# Altium integrated library Coiltronics Passive Transformer.IntLib: 204 symbols (part 2 of 4)
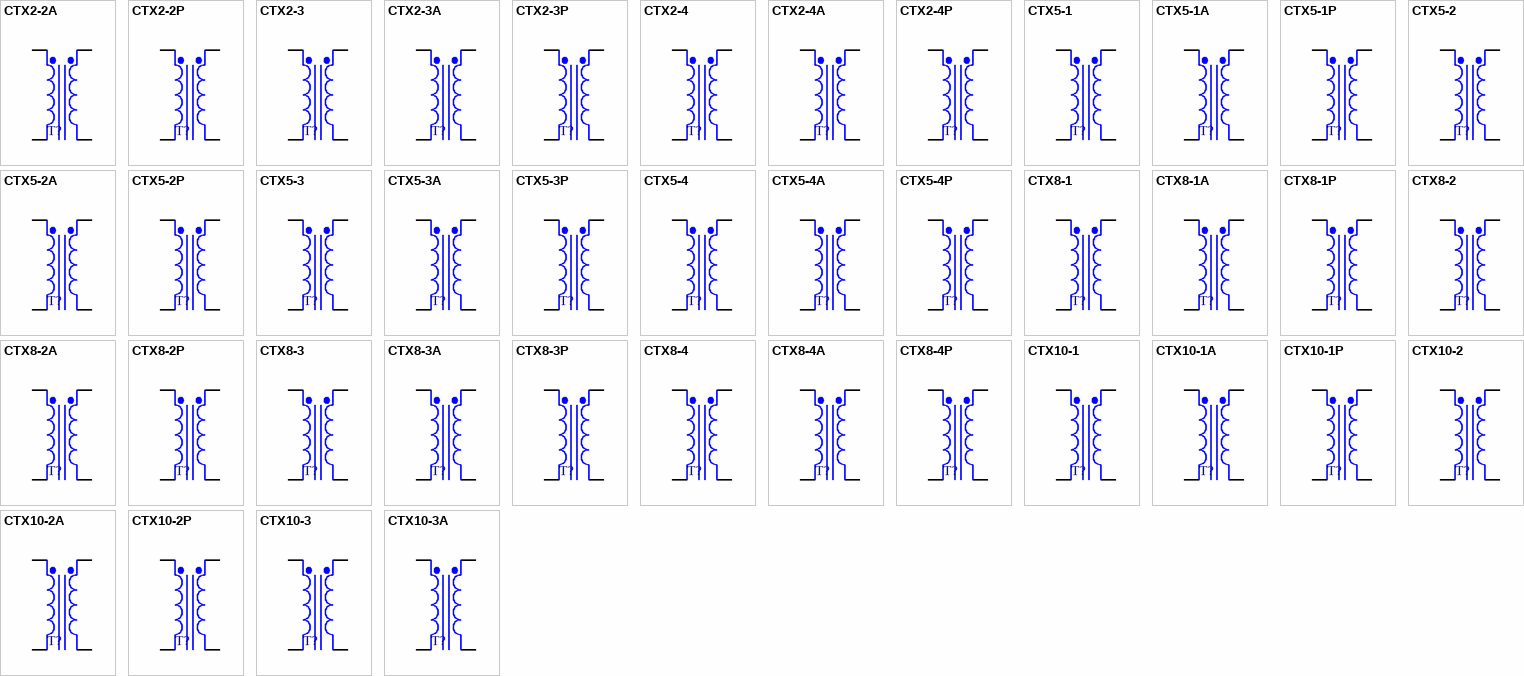
[diagram p6: symbols CTX2-2A to CTX10-3A]

## CTX5-4P
designator T?
Surface Mount 1:1 Transformer, 1.65A DC Series Full Load Current, Econo-Pac; Parallel_OCL: 5.15uH ± 20%; Parallel_L(Full_Load): 3.56uH (Minimum); Parallel_I(Full_Load): 3.30A DC; Parallel_DCR: 0.027 Ohms (Maximum); Series_OCL: 20.62uH ± 20%; Series_L(Full_Load): 14.23uH (Minimum); Series_DCR: 0.107 Ohms (Maximum); Published: 17-Jul-2002; DatasheetDocument: Jan-2002; PackageDocument: Dec-2001; PackageReference: OPA4; Publisher: Altium Limited; Series_I(Full_Load): 1.65A DC; ComponentLink1Description: Manufacturer Link; ComponentLink1URL: http://www.cooperet.com/; ComponentLink2Description: Datasheet; ComponentLink2URL: http://www.cooperet.com/pdfs_html/EconoPacOctaPacOctaPacPlus_Specs.pdf
footprint OPA4 (SM Inductor/Transformer; 4 Leads; Body 11.43 x 11.43 x 6.35 mm (LxWxH))
pins: 1 Pri+, 2 Pri-, 3 Sec-, 4 Sec+

## CTX8-1
designator T?
Surface Mount 1:1 Transformer, 1.00A DC Series Full Load Current, Octa-Pac; Parallel_OCL: 8.10uH ± 20%; Parallel_L(Full_Load): 4.08uH (Minimum); Parallel_I(Full_Load): 2.00A DC; Parallel_DCR: 0.039 Ohms (Maximum); Series_OCL: 32.40uH ± 20%; Series_L(Full_Load): 16.34uH (Minimum); Series_I(Full_Load): 1A DC; Series_DCR: 0.157 Ohms (Maximum); Published: 17-Jul-2002; DatasheetDocument: Jan-2002; PackageDocument: Dec-2001; PackageReference: OPA1; Publisher: Altium Limited; ComponentLink1Description: Manufacturer Link; ComponentLink1URL: http://www.cooperet.com/; ComponentLink2Description: Datasheet; ComponentLink2URL: http://www.cooperet.com/pdfs_html/EconoPacOctaPacOctaPacPlus_Specs.pdf
footprint OPA1 (SM Inductor/Transformer; 4 Leads; Body 8.89 x 8.89 x 4.19 mm (LxWxH))
pins: 1 Pri+, 2 Pri-, 3 Sec-, 4 Sec+

## CTX8-1A
designator T?
Surface Mount 1:1 Transformer, 1.69A RMS Series Current, Octa-Pac Plus; Parallel_OCL: 7.94uH ± 25%; Parallel_I(Sat): 2.88A (Peak); Parallel_I(RMS): 3.37A DC; Parallel_DCR: 0.033 Ohms (Typical @ 20°C); Series_OCL: 31.77uH ± 25%; Series_I(Sat): 1.44uH (Minimum); Series_I(RMS): 1.69A DC; Series_DCR: 0.130 Ohms (Typical @ 20°C); Published: 17-Jul-2002; DatasheetDocument: Dec-2001; PackageDocument: Dec-2001; PackageReference: OPA1; Publisher: Altium Limited; ComponentLink1Description: Manufacturer Link; ComponentLink1URL: http://www.cooperet.com/; ComponentLink2Description: Datasheet; ComponentLink2URL: http://www.cooperet.com/pdfs_html/EconoPacOctaPacOctaPacPlus_Specs.pdf
footprint OPA1 (SM Inductor/Transformer; 4 Leads; Body 8.89 x 8.89 x 4.19 mm (LxWxH))
pins: 1 Pri+, 2 Pri-, 3 Sec-, 4 Sec+

## CTX8-1P
designator T?
Surface Mount 1:1 Transformer, 0.90A DC Series Full Load Current, Econo-Pac; Parallel_OCL: 8.08uH ± 20%; Parallel_L(Full_Load): 5.31uH (Minimum); Parallel_I(Full_Load): 1.80A DC; Parallel_DCR: 0.052 Ohms (Maximum); Series_OCL: 32.33uH ± 20%; Series_L(Full_Load): 21.23uH (Minimum); Series_I(Full_Load): 0.9A DC; Series_DCR: 0.207 Ohms (Maximum); Published: 17-Jul-2002; DatasheetDocument: Jan-2002; PackageDocument: Dec-2001; PackageReference: OPA1; Publisher: Altium Limited; ComponentLink1Description: Manufacturer Link; ComponentLink1URL: http://www.cooperet.com/; ComponentLink2Description: Datasheet; ComponentLink2URL: http://www.cooperet.com/pdfs_html/EconoPacOctaPacOctaPacPlus_Specs.pdf
footprint OPA1 (SM Inductor/Transformer; 4 Leads; Body 8.89 x 8.89 x 4.19 mm (LxWxH))
pins: 1 Pri+, 2 Pri-, 3 Sec-, 4 Sec+

## CTX8-2
designator T?
Surface Mount 1:1 Transformer, 1.30A DC Series Full Load Current, Octa-Pac; Parallel_OCL: 7.94uH ± 20%; Parallel_L(Full_Load): 4.18uH (Minimum); Parallel_I(Full_Load): 2.60A DC; Parallel_DCR: 0.027 Ohms (Maximum); Series_OCL: 31.77uH ± 20%; Series_L(Full_Load): 16.72uH (Minimum); Series_I(Full_Load): 1.3A DC; Series_DCR: 0.108 Ohms (Maximum); Published: 17-Jul-2002; DatasheetDocument: Jan-2002; PackageDocument: Dec-2001; PackageReference: OPA2; Publisher: Altium Limited; ComponentLink1Description: Manufacturer Link; ComponentLink1URL: http://www.cooperet.com/; ComponentLink2Description: Datasheet; ComponentLink2URL: http://www.cooperet.com/pdfs_html/EconoPacOctaPacOctaPacPlus_Specs.pdf
footprint OPA2 (SM Inductor/Transformer; 4 Leads; Body 8.89 x 8.89 x 5.97 mm (LxWxH))
pins: 1 Pri+, 2 Pri-, 3 Sec-, 4 Sec+

## CTX8-2A
designator T?
Surface Mount 1:1 Transformer, 1.75A RMS Series Current, Octa-Pac Plus; Parallel_OCL: 7.90uH ± 25%; Parallel_I(Sat): 3.75A (Peak); Parallel_I(RMS): 3.50A DC; Parallel_DCR: 0.032 Ohms (Typical @ 20°C); Series_OCL: 31.60uH ± 25%; Series_I(Sat): 1.88uH (Minimum); Series_I(RMS): 1.75A DC; Series_DCR: 0.129 Ohms (Typical @ 20°C); Published: 17-Jul-2002; DatasheetDocument: Dec-2001; PackageDocument: Dec-2001; PackageReference: OPA2; Publisher: Altium Limited; ComponentLink1Description: Manufacturer Link; ComponentLink1URL: http://www.cooperet.com/; ComponentLink2Description: Datasheet; ComponentLink2URL: http://www.cooperet.com/pdfs_html/EconoPacOctaPacOctaPacPlus_Specs.pdf
footprint OPA2 (SM Inductor/Transformer; 4 Leads; Body 8.89 x 8.89 x 5.97 mm (LxWxH))
pins: 1 Pri+, 2 Pri-, 3 Sec-, 4 Sec+

## CTX8-2P
designator T?
Surface Mount 1:1 Transformer, 1.15A DC Series Full Load Current, Econo-Pac; Parallel_OCL: 7.65uH ± 20%; Parallel_L(Full_Load): 5.31uH (Minimum); Parallel_I(Full_Load): 2.30A DC; Parallel_DCR: 0.04 Ohms (Maximum); Series_OCL: 30.60uH ± 20%; Series_L(Full_Load): 21.23uH (Minimum); Series_DCR: 0.158 Ohms (Maximum); Published: 17-Jul-2002; DatasheetDocument: Jan-2002; PackageDocument: Dec-2001; PackageReference: OPA2; Publisher: Altium Limited; Series_I(Full_Load): 1.15A DC; ComponentLink1Description: Manufacturer Link; ComponentLink1URL: http://www.cooperet.com/; ComponentLink2Description: Datasheet; ComponentLink2URL: http://www.cooperet.com/pdfs_html/EconoPacOctaPacOctaPacPlus_Specs.pdf
footprint OPA2 (SM Inductor/Transformer; 4 Leads; Body 8.89 x 8.89 x 5.97 mm (LxWxH))
pins: 1 Pri+, 2 Pri-, 3 Sec-, 4 Sec+

## CTX8-3
designator T?
Surface Mount 1:1 Transformer, 1.40A DC Series Full Load Current, Octa-Pac; Parallel_OCL: 7.78uH ± 20%; Parallel_L(Full_Load): 3.74uH (Minimum); Parallel_I(Full_Load): 2.80A DC; Parallel_DCR: 0.025 Ohms (Maximum); Series_OCL: 31.10uH ± 20%; Series_L(Full_Load): 14.98uH (Minimum); Series_I(Full_Load): 1.4A DC; Series_DCR: 0.099 Ohms (Maximum); Published: 17-Jul-2002; DatasheetDocument: Jan-2002; PackageDocument: Dec-2001; PackageReference: OPA3; Publisher: Altium Limited; ComponentLink1Description: Manufacturer Link; ComponentLink1URL: http://www.cooperet.com/; ComponentLink2Description: Datasheet; ComponentLink2URL: http://www.cooperet.com/pdfs_html/EconoPacOctaPacOctaPacPlus_Specs.pdf
footprint OPA3 (SM Inductor/Transformer; 4 Leads; Body 11.43 x 11.43 x 4.83 mm (LxWxH))
pins: 1 Pri+, 2 Pri-, 3 Sec-, 4 Sec+

## CTX8-3A
designator T?
Surface Mount 1:1 Transformer, 2.12A RMS Series Current, Octa-Pac Plus; Parallel_OCL: 8.43uH ± 25%; Parallel_I(Sat): 3.21A (Peak); Parallel_I(RMS): 4.23A DC; Parallel_DCR: 0.023 Ohms (Typical @ 20°C); Series_OCL: 33.77uH ± 25%; Series_I(Sat): 1.61uH (Minimum); Series_I(RMS): 2.12A DC; Series_DCR: 0.093 Ohms (Typical @ 20°C); Published: 17-Jul-2002; DatasheetDocument: Dec-2001; PackageDocument: Dec-2001; PackageReference: OPA3; Publisher: Altium Limited; ComponentLink1Description: Manufacturer Link; ComponentLink1URL: http://www.cooperet.com/; ComponentLink2Description: Datasheet; ComponentLink2URL: http://www.cooperet.com/pdfs_html/EconoPacOctaPacOctaPacPlus_Specs.pdf
footprint OPA3 (SM Inductor/Transformer; 4 Leads; Body 11.43 x 11.43 x 4.83 mm (LxWxH))
pins: 1 Pri+, 2 Pri-, 3 Sec-, 4 Sec+

## CTX8-3P
designator T?
Surface Mount 1:1 Transformer, 1.40A DC Series Full Load Current, Econo-Pac; Parallel_OCL: 8.16uH ± 20%; Parallel_L(Full_Load): 4.90uH (Minimum); Parallel_I(Full_Load): 2.80A DC; Parallel_DCR: 0.03 Ohms (Maximum); Series_OCL: 32.63uH ± 20%; Series_L(Full_Load): 19.6uH (Minimum); Series_I(Full_Load): 1.4A DC; Series_DCR: 0.119 Ohms (Maximum); Published: 17-Jul-2002; DatasheetDocument: Jan-2002; PackageDocument: Dec-2001; PackageReference: OPA3; Publisher: Altium Limited; ComponentLink1Description: Manufacturer Link; ComponentLink1URL: http://www.cooperet.com/; ComponentLink2Description: Datasheet; ComponentLink2URL: http://www.cooperet.com/pdfs_html/EconoPacOctaPacOctaPacPlus_Specs.pdf
footprint OPA3 (SM Inductor/Transformer; 4 Leads; Body 11.43 x 11.43 x 4.83 mm (LxWxH))
pins: 1 Pri+, 2 Pri-, 3 Sec-, 4 Sec+

## CTX8-4
designator T?
Surface Mount 1:1 Transformer, 1.75A DC Series Full Load Current, Octa-Pac; Parallel_OCL: 8.28uH ± 20%; Parallel_L(Full_Load): 4.29uH (Minimum); Parallel_I(Full_Load): 3.50A DC; Parallel_DCR: 0.018 Ohms (Maximum); Series_OCL: 33.12uH ± 20%; Series_L(Full_Load): 17.14uH (Minimum); Series_DCR: 0.072 Ohms (Maximum); Published: 17-Jul-2002; DatasheetDocument: Jan-2002; PackageDocument: Dec-2001; PackageReference: OPA4; Publisher: Altium Limited; Series_I(Full_Load): 1.75A DC; ComponentLink1Description: Manufacturer Link; ComponentLink1URL: http://www.cooperet.com/; ComponentLink2Description: Datasheet; ComponentLink2URL: http://www.cooperet.com/pdfs_html/EconoPacOctaPacOctaPacPlus_Specs.pdf
footprint OPA4 (SM Inductor/Transformer; 4 Leads; Body 11.43 x 11.43 x 6.35 mm (LxWxH))
pins: 1 Pri+, 2 Pri-, 3 Sec-, 4 Sec+

## CTX8-4A
designator T?
Surface Mount 1:1 Transformer, 2.74A RMS Series Current, Octa-Pac Plus; Parallel_OCL: 8.70uH ± 25%; Parallel_I(Sat): 4.50A (Peak); Parallel_I(RMS): 5.49A DC; Parallel_DCR: 0.015 Ohms (Typical @ 20°C); Series_OCL: 34.80uH ± 25%; Series_I(Sat): 2.25uH (Minimum); Series_I(RMS): 2.74A DC; Series_DCR: 0.059 Ohms (Typical @ 20°C); Published: 17-Jul-2002; DatasheetDocument: Dec-2001; PackageDocument: Dec-2001; PackageReference: OPA4; Publisher: Altium Limited; ComponentLink1Description: Manufacturer Link; ComponentLink1URL: http://www.cooperet.com/; ComponentLink2Description: Datasheet; ComponentLink2URL: http://www.cooperet.com/pdfs_html/EconoPacOctaPacOctaPacPlus_Specs.pdf
footprint OPA4 (SM Inductor/Transformer; 4 Leads; Body 11.43 x 11.43 x 6.35 mm (LxWxH))
pins: 1 Pri+, 2 Pri-, 3 Sec-, 4 Sec+

## CTX8-4P
designator T?
Surface Mount 1:1 Transformer, 1.50A DC Series Full Load Current, Econo-Pac; Parallel_OCL: 7.81uH ± 20%; Parallel_L(Full_Load): 5.15uH (Minimum); Parallel_I(Full_Load): 3.00A DC; Parallel_DCR: 0.033 Ohms (Maximum); Series_OCL: 31.23uH ± 20%; Series_L(Full_Load): 20.61uH (Minimum); Series_I(Full_Load): 1.5A DC; Series_DCR: 0.131 Ohms (Maximum); Published: 17-Jul-2002; DatasheetDocument: Jan-2002; PackageDocument: Dec-2001; PackageReference: OPA4; Publisher: Altium Limited; ComponentLink1Description: Manufacturer Link; ComponentLink1URL: http://www.cooperet.com/; ComponentLink2Description: Datasheet; ComponentLink2URL: http://www.cooperet.com/pdfs_html/EconoPacOctaPacOctaPacPlus_Specs.pdf
footprint OPA4 (SM Inductor/Transformer; 4 Leads; Body 11.43 x 11.43 x 6.35 mm (LxWxH))
pins: 1 Pri+, 2 Pri-, 3 Sec-, 4 Sec+

## CTX10-1
designator T?
Surface Mount 1:1 Transformer, 0.95A DC Series Full Load Current, Octa-Pac; Parallel_OCL: 10.00uH ± 20%; Parallel_L(Full_Load): 4.85uH (Minimum); Parallel_I(Full_Load): 1.90A DC; Parallel_DCR: 0.044 Ohms (Maximum); Series_OCL: 40.00uH ± 20%; Series_L(Full_Load): 19.4uH (Minimum); Series_DCR: 0.176 Ohms (Maximum); Published: 17-Jul-2002; DatasheetDocument: Jan-2002; PackageDocument: Dec-2001; PackageReference: OPA1; Publisher: Altium Limited; Series_I(Full_Load): 0.95A DC; ComponentLink1Description: Manufacturer Link; ComponentLink1URL: http://www.cooperet.com/; ComponentLink2Description: Datasheet; ComponentLink2URL: http://www.cooperet.com/pdfs_html/EconoPacOctaPacOctaPacPlus_Specs.pdf
footprint OPA1 (SM Inductor/Transformer; 4 Leads; Body 8.89 x 8.89 x 4.19 mm (LxWxH))
pins: 1 Pri+, 2 Pri-, 3 Sec-, 4 Sec+

## CTX10-1A
designator T?
Surface Mount 1:1 Transformer, 1.42A RMS Series Current, Octa-Pac Plus; Parallel_OCL: 10.58uH ± 25%; Parallel_I(Sat): 2.50A (Peak); Parallel_I(RMS): 2.84A DC; Parallel_DCR: 0.046 Ohms (Typical @ 20°C); Series_OCL: 42.3uH ± 25%; Series_I(Sat): 1.25uH (Minimum); Series_I(RMS): 1.42A DC; Series_DCR: 0.183 Ohms (Typical @ 20°C); Published: 17-Jul-2002; DatasheetDocument: Dec-2001; PackageDocument: Dec-2001; PackageReference: OPA1; Publisher: Altium Limited; ComponentLink1Description: Manufacturer Link; ComponentLink1URL: http://www.cooperet.com/; ComponentLink2Description: Datasheet; ComponentLink2URL: http://www.cooperet.com/pdfs_html/EconoPacOctaPacOctaPacPlus_Specs.pdf
footprint OPA1 (SM Inductor/Transformer; 4 Leads; Body 8.89 x 8.89 x 4.19 mm (LxWxH))
pins: 1 Pri+, 2 Pri-, 3 Sec-, 4 Sec+

## CTX10-1P
designator T?
Surface Mount 1:1 Transformer, 0.85A DC Series Full Load Current, Econo-Pac; Parallel_OCL: 9.62uH ± 20%; Parallel_L(Full_Load): 6.23uH (Minimum); Parallel_I(Full_Load): 1.70A DC; Parallel_DCR: 0.057 Ohms (Maximum); Series_OCL: 38.48uH ± 20%; Series_L(Full_Load): 24.94uH (Minimum); Series_DCR: 0.227 Ohms (Maximum); Published: 17-Jul-2002; DatasheetDocument: Jan-2002; PackageDocument: Dec-2001; PackageReference: OPA1; Publisher: Altium Limited; Series_I(Full_Load): 0.85A DC; ComponentLink1Description: Manufacturer Link; ComponentLink1URL: http://www.cooperet.com/; ComponentLink2Description: Datasheet; ComponentLink2URL: http://www.cooperet.com/pdfs_html/EconoPacOctaPacOctaPacPlus_Specs.pdf
footprint OPA1 (SM Inductor/Transformer; 4 Leads; Body 8.89 x 8.89 x 4.19 mm (LxWxH))
pins: 1 Pri+, 2 Pri-, 3 Sec-, 4 Sec+

## CTX10-2
designator T?
Surface Mount 1:1 Transformer, 1.25A DC Series Full Load Current, Octa-Pac; Parallel_OCL: 10.58uH ± 20%; Parallel_L(Full_Load): 5.18uH (Minimum); Parallel_I(Full_Load): 2.50A DC; Parallel_DCR: 0.031 Ohms (Maximum); Series_OCL: 42.30uH ± 20%; Series_L(Full_Load): 20.72uH (Minimum); Series_DCR: 0.125 Ohms (Maximum); Published: 17-Jul-2002; DatasheetDocument: Jan-2002; PackageDocument: Dec-2001; PackageReference: OPA2; Publisher: Altium Limited; Series_I(Full_Load): 1.25A DC; ComponentLink1Description: Manufacturer Link; ComponentLink1URL: http://www.cooperet.com/; ComponentLink2Description: Datasheet; ComponentLink2URL: http://www.cooperet.com/pdfs_html/EconoPacOctaPacOctaPacPlus_Specs.pdf
footprint OPA2 (SM Inductor/Transformer; 4 Leads; Body 8.89 x 8.89 x 5.97 mm (LxWxH))
pins: 1 Pri+, 2 Pri-, 3 Sec-, 4 Sec+

## CTX10-2A
designator T?
Surface Mount 1:1 Transformer, 1.45A RMS Series Current, Octa-Pac Plus; Parallel_OCL: 11.38uH ± 25%; Parallel_I(Sat): 3.13A (Peak); Parallel_I(RMS): 2.89A DC; Parallel_DCR: 0.047 Ohms (Typical @ 20°C); Series_OCL: 45.50uH ± 25%; Series_I(Sat): 1.56uH (Minimum); Series_I(RMS): 1.45A DC; Series_DCR: 0.188 Ohms (Typical @ 20°C); Published: 17-Jul-2002; DatasheetDocument: Dec-2001; PackageDocument: Dec-2001; PackageReference: OPA2; Publisher: Altium Limited; ComponentLink1Description: Manufacturer Link; ComponentLink1URL: http://www.cooperet.com/; ComponentLink2Description: Datasheet; ComponentLink2URL: http://www.cooperet.com/pdfs_html/EconoPacOctaPacOctaPacPlus_Specs.pdf
footprint OPA2 (SM Inductor/Transformer; 4 Leads; Body 8.89 x 8.89 x 5.97 mm (LxWxH))
pins: 1 Pri+, 2 Pri-, 3 Sec-, 4 Sec+

## CTX10-2P
designator T?
Surface Mount 1:1 Transformer, 1.05A DC Series Full Load Current, Econo-Pac; Parallel_OCL: 9.83uH ± 20%; Parallel_L(Full_Load): 6.73uH (Minimum); Parallel_I(Full_Load): 2.10A DC; Parallel_DCR: 0.045 Ohms (Maximum); Series_OCL: 39.30uH ± 20%; Series_L(Full_Load): 26.92uH (Minimum); Series_DCR: 0.179 Ohms (Maximum); Published: 17-Jul-2002; DatasheetDocument: Jan-2002; PackageDocument: Dec-2001; PackageReference: OPA2; Publisher: Altium Limited; Series_I(Full_Load): 1.05A DC; ComponentLink1Description: Manufacturer Link; ComponentLink1URL: http://www.cooperet.com/; ComponentLink2Description: Datasheet; ComponentLink2URL: http://www.cooperet.com/pdfs_html/EconoPacOctaPacOctaPacPlus_Specs.pdf
footprint OPA2 (SM Inductor/Transformer; 4 Leads; Body 8.89 x 8.89 x 5.97 mm (LxWxH))
pins: 1 Pri+, 2 Pri-, 3 Sec-, 4 Sec+

## CTX10-3
designator T?
Surface Mount 1:1 Transformer, 1.35A DC Series Full Load Current, Octa-Pac; Parallel_OCL: 9.60uH ± 20%; Parallel_L(Full_Load): 4.38uH (Minimum); Parallel_I(Full_Load): 2.70A DC; Parallel_DCR: 0.028 Ohms (Maximum); Series_OCL: 38.40uH ± 20%; Series_L(Full_Load): 17.54uH (Minimum); Series_DCR: 0.111 Ohms (Maximum); Published: 17-Jul-2002; DatasheetDocument: Jan-2002; PackageDocument: Dec-2001; PackageReference: OPA3; Publisher: Altium Limited; Series_I(Full_Load): 1.35A DC; ComponentLink1Description: Manufacturer Link; ComponentLink1URL: http://www.cooperet.com/; ComponentLink2Description: Datasheet; ComponentLink2URL: http://www.cooperet.com/pdfs_html/EconoPacOctaPacOctaPacPlus_Specs.pdf
footprint OPA3 (SM Inductor/Transformer; 4 Leads; Body 11.43 x 11.43 x 4.83 mm (LxWxH))
pins: 1 Pri+, 2 Pri-, 3 Sec-, 4 Sec+

## CTX10-3A
designator T?
Surface Mount 1:1 Transformer, 1.82A RMS Series Current, Octa-Pac Plus; Parallel_OCL: 9.68uH ± 25%; Parallel_I(Sat): 3.00A (Peak); Parallel_I(RMS): 3.64A DC; Parallel_DCR: 0.032 Ohms (Typical @ 20°C); Series_OCL: 38.7uH ± 25%; Series_I(Sat): 1.50uH (Minimum); Series_I(RMS): 1.82A DC; Series_DCR: 0.126 Ohms (Typical @ 20°C); Published: 17-Jul-2002; DatasheetDocument: Dec-2001; PackageDocument: Dec-2001; PackageReference: OPA3; Publisher: Altium Limited; ComponentLink1Description: Manufacturer Link; ComponentLink1URL: http://www.cooperet.com/; ComponentLink2Description: Datasheet; ComponentLink2URL: http://www.cooperet.com/pdfs_html/EconoPacOctaPacOctaPacPlus_Specs.pdf
footprint OPA3 (SM Inductor/Transformer; 4 Leads; Body 11.43 x 11.43 x 4.83 mm (LxWxH))
pins: 1 Pri+, 2 Pri-, 3 Sec-, 4 Sec+

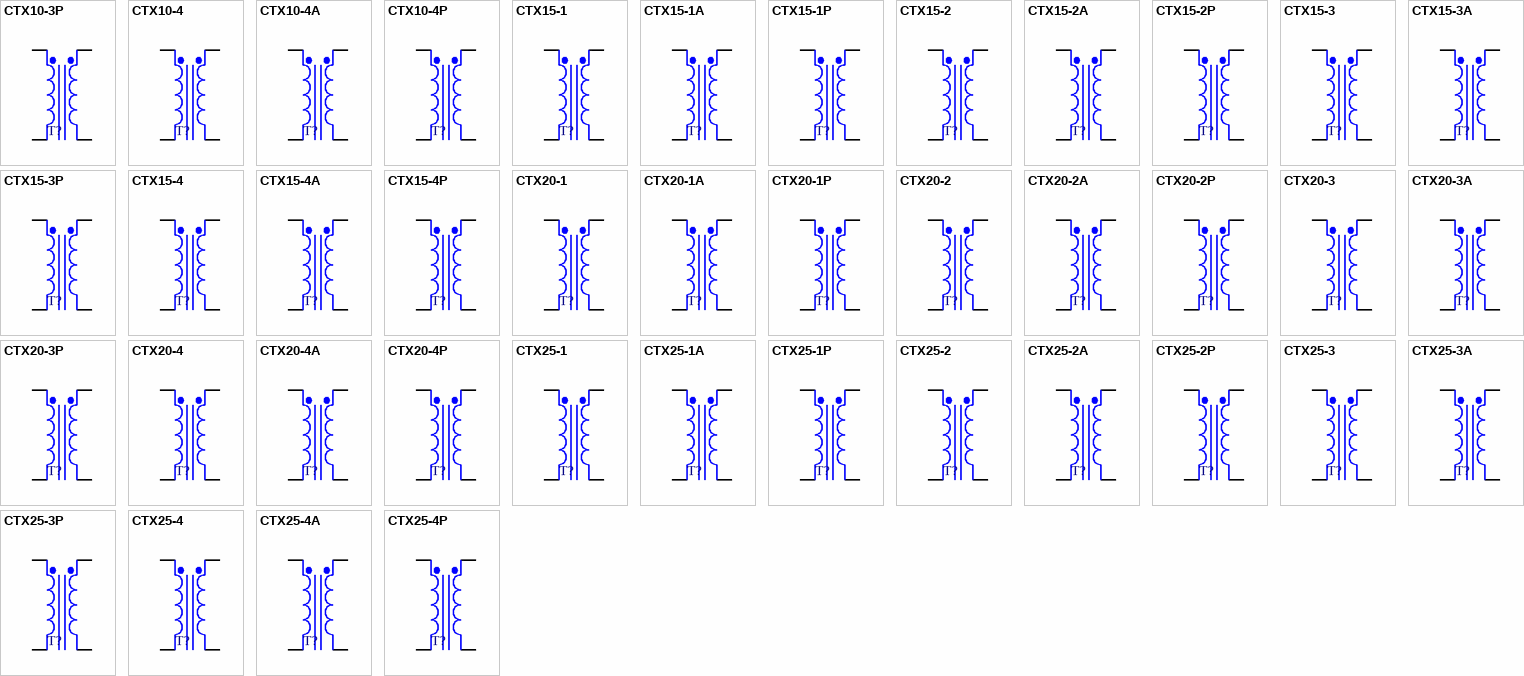
[diagram p2: symbols CTX10-3P to CTX25-4P]

## CTX10-3P
designator T?
Surface Mount 1:1 Transformer, 1.35A DC Series Full Load Current, Econo-Pac; Parallel_OCL: 9.79uH ± 20%; Parallel_L(Full_Load): 5.71uH (Minimum); Parallel_I(Full_Load): 2.70A DC; Parallel_DCR: 0.033 Ohms (Maximum); Series_OCL: 39.15uH ± 20%; Series_L(Full_Load): 22.85uH (Minimum); Series_DCR: 0.131 Ohms (Maximum); Published: 17-Jul-2002; DatasheetDocument: Jan-2002; PackageDocument: Dec-2001; PackageReference: OPA3; Publisher: Altium Limited; Series_I(Full_Load): 1.35A DC; ComponentLink1Description: Manufacturer Link; ComponentLink1URL: http://www.cooperet.com/; ComponentLink2Description: Datasheet; ComponentLink2URL: http://www.cooperet.com/pdfs_html/EconoPacOctaPacOctaPacPlus_Specs.pdf
footprint OPA3 (SM Inductor/Transformer; 4 Leads; Body 11.43 x 11.43 x 4.83 mm (LxWxH))
pins: 1 Pri+, 2 Pri-, 3 Sec-, 4 Sec+

## CTX10-4
designator T?
Surface Mount 1:1 Transformer, 1.70A DC Series Full Load Current, Octa-Pac; Parallel_OCL: 9.60uH ± 20%; Parallel_L(Full_Load): 4.82uH (Minimum); Parallel_I(Full_Load): 3.40A DC; Parallel_DCR: 0.019 Ohms (Maximum); Series_OCL: 38.42uH ± 20%; Series_L(Full_Load): 19.28uH (Minimum); Series_I(Full_Load): 1.7A DC; Series_DCR: 0.078 Ohms (Maximum); Published: 17-Jul-2002; DatasheetDocument: Jan-2002; PackageDocument: Dec-2001; PackageReference: OPA4; Publisher: Altium Limited; ComponentLink1Description: Manufacturer Link; ComponentLink1URL: http://www.cooperet.com/; ComponentLink2Description: Datasheet; ComponentLink2URL: http://www.cooperet.com/pdfs_html/EconoPacOctaPacOctaPacPlus_Specs.pdf
footprint OPA4 (SM Inductor/Transformer; 4 Leads; Body 11.43 x 11.43 x 6.35 mm (LxWxH))
pins: 1 Pri+, 2 Pri-, 3 Sec-, 4 Sec+

## CTX10-4A
designator T?
Surface Mount 1:1 Transformer, 2.33A RMS Series Current, Octa-Pac Plus; Parallel_OCL: 10.53uH ± 25%; Parallel_I(Sat): 4.09A (Peak); Parallel_I(RMS): 4.67A DC; Parallel_DCR: 0.020 Ohms (Typical @ 20°C); Series_OCL: 42.11uH ± 25%; Series_I(Sat): 2.05uH (Minimum); Series_I(RMS): 2.33A DC; Series_DCR: 0.081 Ohms (Typical @ 20°C); Published: 17-Jul-2002; DatasheetDocument: Dec-2001; PackageDocument: Dec-2001; PackageReference: OPA4; Publisher: Altium Limited; ComponentLink1Description: Manufacturer Link; ComponentLink1URL: http://www.cooperet.com/; ComponentLink2Description: Datasheet; ComponentLink2URL: http://www.cooperet.com/pdfs_html/EconoPacOctaPacOctaPacPlus_Specs.pdf
footprint OPA4 (SM Inductor/Transformer; 4 Leads; Body 11.43 x 11.43 x 6.35 mm (LxWxH))
pins: 1 Pri+, 2 Pri-, 3 Sec-, 4 Sec+

## CTX10-4P
designator T?
Surface Mount 1:1 Transformer, 1.25A DC Series Full Load Current, Econo-Pac; Parallel_OCL: 9.88uH ± 20%; Parallel_L(Full_Load): 6.70uH (Minimum); Parallel_I(Full_Load): 2.50A DC; Parallel_DCR: 0.047 Ohms (Maximum); Series_OCL: 39.53uH ± 20%; Series_L(Full_Load): 26.79uH (Minimum); Series_DCR: 0.187 Ohms (Maximum); Published: 17-Jul-2002; DatasheetDocument: Jan-2002; PackageDocument: Dec-2001; PackageReference: OPA4; Publisher: Altium Limited; Series_I(Full_Load): 1.25A DC; ComponentLink1Description: Manufacturer Link; ComponentLink1URL: http://www.cooperet.com/; ComponentLink2Description: Datasheet; ComponentLink2URL: http://www.cooperet.com/pdfs_html/EconoPacOctaPacOctaPacPlus_Specs.pdf
footprint OPA4 (SM Inductor/Transformer; 4 Leads; Body 11.43 x 11.43 x 6.35 mm (LxWxH))
pins: 1 Pri+, 2 Pri-, 3 Sec-, 4 Sec+

## CTX15-1
designator T?
Surface Mount 1:1 Transformer, 0.55A DC Series Full Load Current, Octa-Pac; Parallel_OCL: 14.40uH ± 20%; Parallel_L(Full_Load): 8.74uH (Minimum); Parallel_I(Full_Load): 1.10A DC; Parallel_DCR: 0.08 Ohms (Maximum); Series_OCL: 57.60uH ± 20%; Series_L(Full_Load): 34.96uH (Minimum); Series_DCR: 0.319 Ohms (Maximum); Published: 17-Jul-2002; DatasheetDocument: Jan-2002; PackageDocument: Dec-2001; PackageReference: OPA1; Publisher: Altium Limited; Series_I(Full_Load): 0.55A DC; ComponentLink1Description: Manufacturer Link; ComponentLink1URL: http://www.cooperet.com/; ComponentLink2Description: Datasheet; ComponentLink2URL: http://www.cooperet.com/pdfs_html/EconoPacOctaPacOctaPacPlus_Specs.pdf
footprint OPA1 (SM Inductor/Transformer; 4 Leads; Body 8.89 x 8.89 x 4.19 mm (LxWxH))
pins: 1 Pri+, 2 Pri-, 3 Sec-, 4 Sec+

## CTX15-1A
designator T?
Surface Mount 1:1 Transformer, 1.03A RMS Series Current, Octa-Pac Plus; Parallel_OCL: 15.23uH ± 25%; Parallel_I(Sat): 2.08A (Peak); Parallel_I(RMS): 2.07A DC; Parallel_DCR: 0.087 Ohms (Typical @ 20°C); Series_OCL: 60.91uH ± 25%; Series_I(Sat): 1.04uH (Minimum); Series_I(RMS): 1.03A DC; Series_DCR: 0.348 Ohms (Typical @ 20°C); Published: 17-Jul-2002; DatasheetDocument: Dec-2001; PackageDocument: Dec-2001; PackageReference: OPA1; Publisher: Altium Limited; ComponentLink1Description: Manufacturer Link; ComponentLink1URL: http://www.cooperet.com/; ComponentLink2Description: Datasheet; ComponentLink2URL: http://www.cooperet.com/pdfs_html/EconoPacOctaPacOctaPacPlus_Specs.pdf
footprint OPA1 (SM Inductor/Transformer; 4 Leads; Body 8.89 x 8.89 x 4.19 mm (LxWxH))
pins: 1 Pri+, 2 Pri-, 3 Sec-, 4 Sec+

## CTX15-1P
designator T?
Surface Mount 1:1 Transformer, 0.70A DC Series Full Load Current, Econo-Pac; Parallel_OCL: 15.03uH ± 20%; Parallel_L(Full_Load): 9.62uH (Minimum); Parallel_I(Full_Load): 1.40A DC; Parallel_DCR: 0.087 Ohms (Maximum); Series_OCL: 60.12uH ± 20%; Series_L(Full_Load): 38.47uH (Minimum); Series_I(Full_Load): 0.7A DC; Series_DCR: 0.348 Ohms (Maximum); Published: 17-Jul-2002; DatasheetDocument: Jan-2002; PackageDocument: Dec-2001; PackageReference: OPA1; Publisher: Altium Limited; ComponentLink1Description: Manufacturer Link; ComponentLink1URL: http://www.cooperet.com/; ComponentLink2Description: Datasheet; ComponentLink2URL: http://www.cooperet.com/pdfs_html/EconoPacOctaPacOctaPacPlus_Specs.pdf
footprint OPA1 (SM Inductor/Transformer; 4 Leads; Body 8.89 x 8.89 x 4.19 mm (LxWxH))
pins: 1 Pri+, 2 Pri-, 3 Sec-, 4 Sec+

## CTX15-2
designator T?
Surface Mount 1:1 Transformer, 0.85A DC Series Full Load Current, Octa-Pac; Parallel_OCL: 15.23uH ± 20%; Parallel_L(Full_Load): 8.53uH (Minimum); Parallel_I(Full_Load): 1.70A DC; Parallel_DCR: 0.059 Ohms (Maximum); Series_OCL: 60.91uH ± 20%; Series_L(Full_Load): 34.1uH (Minimum); Series_DCR: 0.236 Ohms (Maximum); Published: 17-Jul-2002; DatasheetDocument: Jan-2002; PackageDocument: Dec-2001; PackageReference: OPA2; Publisher: Altium Limited; Series_I(Full_Load): 0.85A DC; ComponentLink1Description: Manufacturer Link; ComponentLink1URL: http://www.cooperet.com/; ComponentLink2Description: Datasheet; ComponentLink2URL: http://www.cooperet.com/pdfs_html/EconoPacOctaPacOctaPacPlus_Specs.pdf
footprint OPA2 (SM Inductor/Transformer; 4 Leads; Body 8.89 x 8.89 x 5.97 mm (LxWxH))
pins: 1 Pri+, 2 Pri-, 3 Sec-, 4 Sec+

## CTX15-2A
designator T?
Surface Mount 1:1 Transformer, 1.35A RMS Series Current, Octa-Pac Plus; Parallel_OCL: 15.48uH ± 25%; Parallel_I(Sat): 2.68A (Peak); Parallel_I(RMS): 2.69A DC; Parallel_DCR: 0.054 Ohms (Typical @ 20°C); Series_OCL: 61.94uH ± 25%; Series_I(Sat): 1.34uH (Minimum); Series_I(RMS): 1.35A DC; Series_DCR: 0.218 Ohms (Typical @ 20°C); Published: 17-Jul-2002; DatasheetDocument: Dec-2001; PackageDocument: Dec-2001; PackageReference: OPA2; Publisher: Altium Limited; ComponentLink1Description: Manufacturer Link; ComponentLink1URL: http://www.cooperet.com/; ComponentLink2Description: Datasheet; ComponentLink2URL: http://www.cooperet.com/pdfs_html/EconoPacOctaPacOctaPacPlus_Specs.pdf
footprint OPA2 (SM Inductor/Transformer; 4 Leads; Body 8.89 x 8.89 x 5.97 mm (LxWxH))
pins: 1 Pri+, 2 Pri-, 3 Sec-, 4 Sec+

## CTX15-2P
designator T?
Surface Mount 1:1 Transformer, 0.80A DC Series Full Load Current, Econo-Pac; Parallel_OCL: 14.99uH ± 20%; Parallel_L(Full_Load): 10.51uH (Minimum); Parallel_I(Full_Load): 1.60A DC; Parallel_DCR: 0.085 Ohms (Maximum); Series_OCL: 59.98uH ± 20%; Series_L(Full_Load): 42.02uH (Minimum); Series_I(Full_Load): 0.8A DC; Series_DCR: 0.339 Ohms (Maximum); Published: 17-Jul-2002; DatasheetDocument: Jan-2002; PackageDocument: Dec-2001; PackageReference: OPA2; Publisher: Altium Limited; ComponentLink1Description: Manufacturer Link; ComponentLink1URL: http://www.cooperet.com/; ComponentLink2Description: Datasheet; ComponentLink2URL: http://www.cooperet.com/pdfs_html/EconoPacOctaPacOctaPacPlus_Specs.pdf
footprint OPA2 (SM Inductor/Transformer; 4 Leads; Body 8.89 x 8.89 x 5.97 mm (LxWxH))
pins: 1 Pri+, 2 Pri-, 3 Sec-, 4 Sec+

## CTX15-3
designator T?
Surface Mount 1:1 Transformer, 1.00A DC Series Full Load Current, Octa-Pac; Parallel_OCL: 15.00uH ± 20%; Parallel_L(Full_Load): 7.26uH (Minimum); Parallel_I(Full_Load): 2.00A DC; Parallel_DCR: 0.043 Ohms (Maximum); Series_OCL: 60.00uH ± 20%; Series_L(Full_Load): 29.06uH (Minimum); Series_I(Full_Load): 1A DC; Series_DCR: 0.172 Ohms (Maximum); Published: 17-Jul-2002; DatasheetDocument: Jan-2002; PackageDocument: Dec-2001; PackageReference: OPA3; Publisher: Altium Limited; ComponentLink1Description: Manufacturer Link; ComponentLink1URL: http://www.cooperet.com/; ComponentLink2Description: Datasheet; ComponentLink2URL: http://www.cooperet.com/pdfs_html/EconoPacOctaPacOctaPacPlus_Specs.pdf
footprint OPA3 (SM Inductor/Transformer; 4 Leads; Body 11.43 x 11.43 x 4.83 mm (LxWxH))
pins: 1 Pri+, 2 Pri-, 3 Sec-, 4 Sec+

## CTX15-3A
designator T?
Surface Mount 1:1 Transformer, 1.63A RMS Series Current, Octa-Pac Plus; Parallel_OCL: 15.52uH ± 25%; Parallel_I(Sat): 2.37A (Peak); Parallel_I(RMS): 3.25A DC; Parallel_DCR: 0.039 Ohms (Typical @ 20°C); Series_OCL: 62.09uH ± 25%; Series_I(Sat): 1.18uH (Minimum); Series_I(RMS): 1.63A DC; Series_DCR: 0.158 Ohms (Typical @ 20°C); Published: 17-Jul-2002; DatasheetDocument: Dec-2001; PackageDocument: Dec-2001; PackageReference: OPA3; Publisher: Altium Limited; ComponentLink1Description: Manufacturer Link; ComponentLink1URL: http://www.cooperet.com/; ComponentLink2Description: Datasheet; ComponentLink2URL: http://www.cooperet.com/pdfs_html/EconoPacOctaPacOctaPacPlus_Specs.pdf
footprint OPA3 (SM Inductor/Transformer; 4 Leads; Body 11.43 x 11.43 x 4.83 mm (LxWxH))
pins: 1 Pri+, 2 Pri-, 3 Sec-, 4 Sec+

## CTX15-3P
designator T?
Surface Mount 1:1 Transformer, 1.10A DC Series Full Load Current, Econo-Pac; Parallel_OCL: 14.50uH ± 20%; Parallel_L(Full_Load): 8.5uH (Minimum); Parallel_I(Full_Load): 2.20A DC; Parallel_DCR: 0.05 Ohms (Maximum); Series_OCL: 58.02uH ± 20%; Series_L(Full_Load): 34.01uH (Minimum); Series_I(Full_Load): 1.1A DC; Series_DCR: 0.198 Ohms (Maximum); Published: 17-Jul-2002; DatasheetDocument: Jan-2002; PackageDocument: Dec-2001; PackageReference: OPA3; Publisher: Altium Limited; ComponentLink1Description: Manufacturer Link; ComponentLink1URL: http://www.cooperet.com/; ComponentLink2Description: Datasheet; ComponentLink2URL: http://www.cooperet.com/pdfs_html/EconoPacOctaPacOctaPacPlus_Specs.pdf
footprint OPA3 (SM Inductor/Transformer; 4 Leads; Body 11.43 x 11.43 x 4.83 mm (LxWxH))
pins: 1 Pri+, 2 Pri-, 3 Sec-, 4 Sec+

## CTX15-4
designator T?
Surface Mount 1:1 Transformer, 1.50A DC Series Full Load Current, Octa-Pac; Parallel_OCL: 14.16uH ± 20%; Parallel_L(Full_Load): 6.76uH (Minimum); Parallel_I(Full_Load): 3.00A DC; Parallel_DCR: 0.024 Ohms (Maximum); Series_OCL: 56.64uH ± 20%; Series_L(Full_Load): 27.03uH (Minimum); Series_I(Full_Load): 1.5A DC; Series_DCR: 0.096 Ohms (Maximum); Published: 17-Jul-2002; DatasheetDocument: Jan-2002; PackageDocument: Dec-2001; PackageReference: OPA4; Publisher: Altium Limited; ComponentLink1Description: Manufacturer Link; ComponentLink1URL: http://www.cooperet.com/; ComponentLink2Description: Datasheet; ComponentLink2URL: http://www.cooperet.com/pdfs_html/EconoPacOctaPacOctaPacPlus_Specs.pdf
footprint OPA4 (SM Inductor/Transformer; 4 Leads; Body 11.43 x 11.43 x 6.35 mm (LxWxH))
pins: 1 Pri+, 2 Pri-, 3 Sec-, 4 Sec+

## CTX15-4A
designator T?
Surface Mount 1:1 Transformer, 1.94A RMS Series Current, Octa-Pac Plus; Parallel_OCL: 14.70uH ± 25%; Parallel_I(Sat): 3.46A (Peak); Parallel_I(RMS): 3.87A DC; Parallel_DCR: 0.029 Ohms (Typical @ 20°C); Series_OCL: 58.81uH ± 25%; Series_I(Sat): 1.73uH (Minimum); Series_I(RMS): 1.94A DC; Series_DCR: 0.117 Ohms (Typical @ 20°C); Published: 17-Jul-2002; DatasheetDocument: Dec-2001; PackageDocument: Dec-2001; PackageReference: OPA4; Publisher: Altium Limited; ComponentLink1Description: Manufacturer Link; ComponentLink1URL: http://www.cooperet.com/; ComponentLink2Description: Datasheet; ComponentLink2URL: http://www.cooperet.com/pdfs_html/EconoPacOctaPacOctaPacPlus_Specs.pdf
footprint OPA4 (SM Inductor/Transformer; 4 Leads; Body 11.43 x 11.43 x 6.35 mm (LxWxH))
pins: 1 Pri+, 2 Pri-, 3 Sec-, 4 Sec+

## CTX15-4P
designator T?
Surface Mount 1:1 Transformer, 1.15A DC Series Full Load Current, Econo-Pac; Parallel_OCL: 14.76uH ± 20%; Parallel_L(Full_Load): 9.52uH (Minimum); Parallel_I(Full_Load): 2.30A DC; Parallel_DCR: 0.057 Ohms (Maximum); Series_OCL: 59.05uH ± 20%; Series_L(Full_Load): 38.09uH (Minimum); Series_DCR: 0.228 Ohms (Maximum); Published: 17-Jul-2002; DatasheetDocument: Jan-2002; PackageDocument: Dec-2001; PackageReference: OPA4; Publisher: Altium Limited; Series_I(Full_Load): 1.15A DC; ComponentLink1Description: Manufacturer Link; ComponentLink1URL: http://www.cooperet.com/; ComponentLink2Description: Datasheet; ComponentLink2URL: http://www.cooperet.com/pdfs_html/EconoPacOctaPacOctaPacPlus_Specs.pdf
footprint OPA4 (SM Inductor/Transformer; 4 Leads; Body 11.43 x 11.43 x 6.35 mm (LxWxH))
pins: 1 Pri+, 2 Pri-, 3 Sec-, 4 Sec+

## CTX20-1
designator T?
Surface Mount 1:1 Transformer, 0.50A DC Series Full Load Current, Octa-Pac; Parallel_OCL: 19.60uH ± 20%; Parallel_L(Full_Load): 11.54uH (Minimum); Parallel_I(Full_Load): 1.00A DC; Parallel_DCR: 0.146 Ohms (Maximum); Series_OCL: 78.40uH ± 20%; Series_L(Full_Load): 46.15uH (Minimum); Series_I(Full_Load): 0.5A DC; Series_DCR: 0.583 Ohms (Maximum); Published: 17-Jul-2002; DatasheetDocument: Jan-2002; PackageDocument: Dec-2001; PackageReference: OPA1; Publisher: Altium Limited; ComponentLink1Description: Manufacturer Link; ComponentLink1URL: http://www.cooperet.com/; ComponentLink2Description: Datasheet; ComponentLink2URL: http://www.cooperet.com/pdfs_html/EconoPacOctaPacOctaPacPlus_Specs.pdf
footprint OPA1 (SM Inductor/Transformer; 4 Leads; Body 8.89 x 8.89 x 4.19 mm (LxWxH))
pins: 1 Pri+, 2 Pri-, 3 Sec-, 4 Sec+

## CTX20-1A
designator T?
Surface Mount 1:1 Transformer, 0.86A RMS Series Current, Octa-Pac Plus; Parallel_OCL: 20.73uH ± 25%; Parallel_I(Sat): 1.79A (Peak); Parallel_I(RMS): 1.71A DC; Parallel_DCR: 0.127 Ohms (Typical @ 20°C); Series_OCL: 82.91uH ± 25%; Series_I(Sat): 0.89uH (Minimum); Series_I(RMS): 0.86A DC; Series_DCR: 0.507 Ohms (Typical @ 20°C); Published: 17-Jul-2002; DatasheetDocument: Dec-2001; PackageDocument: Dec-2001; PackageReference: OPA1; Publisher: Altium Limited; ComponentLink1Description: Manufacturer Link; ComponentLink1URL: http://www.cooperet.com/; ComponentLink2Description: Datasheet; ComponentLink2URL: http://www.cooperet.com/pdfs_html/EconoPacOctaPacOctaPacPlus_Specs.pdf
footprint OPA1 (SM Inductor/Transformer; 4 Leads; Body 8.89 x 8.89 x 4.19 mm (LxWxH))
pins: 1 Pri+, 2 Pri-, 3 Sec-, 4 Sec+

## CTX20-1P
designator T?
Surface Mount 1:1 Transformer, 0.50A DC Series Full Load Current, Econo-Pac; Parallel_OCL: 20.46uH ± 20%; Parallel_L(Full_Load): 14.12uH (Minimum); Parallel_I(Full_Load): 1.00A DC; Parallel_DCR: 0.158 Ohms (Maximum); Series_OCL: 81.83uH ± 20%; Series_L(Full_Load): 56.47uH (Minimum); Series_I(Full_Load): 0.5A DC; Series_DCR: 0.634 Ohms (Maximum); Published: 17-Jul-2002; DatasheetDocument: Jan-2002; PackageDocument: Dec-2001; PackageReference: OPA1; Publisher: Altium Limited; ComponentLink1Description: Manufacturer Link; ComponentLink1URL: http://www.cooperet.com/; ComponentLink2Description: Datasheet; ComponentLink2URL: http://www.cooperet.com/pdfs_html/EconoPacOctaPacOctaPacPlus_Specs.pdf
footprint OPA1 (SM Inductor/Transformer; 4 Leads; Body 8.89 x 8.89 x 4.19 mm (LxWxH))
pins: 1 Pri+, 2 Pri-, 3 Sec-, 4 Sec+

## CTX20-2
designator T?
Surface Mount 1:1 Transformer, 0.65A DC Series Full Load Current, Octa-Pac; Parallel_OCL: 20.73uH ± 20%; Parallel_L(Full_Load): 12.36uH (Minimum); Parallel_I(Full_Load): 1.30A DC; Parallel_DCR: 0.107 Ohms (Maximum); Series_OCL: 82.91uH ± 20%; Series_L(Full_Load): 49.46uH (Minimum); Series_DCR: 0.426 Ohms (Maximum); Published: 17-Jul-2002; DatasheetDocument: Jan-2002; PackageDocument: Dec-2001; PackageReference: OPA2; Publisher: Altium Limited; Series_I(Full_Load): 0.65A DC; ComponentLink1Description: Manufacturer Link; ComponentLink1URL: http://www.cooperet.com/; ComponentLink2Description: Datasheet; ComponentLink2URL: http://www.cooperet.com/pdfs_html/EconoPacOctaPacOctaPacPlus_Specs.pdf
footprint OPA2 (SM Inductor/Transformer; 4 Leads; Body 8.89 x 8.89 x 5.97 mm (LxWxH))
pins: 1 Pri+, 2 Pri-, 3 Sec-, 4 Sec+

## CTX20-2A
designator T?
Surface Mount 1:1 Transformer, 1.12A RMS Series Current, Octa-Pac Plus; Parallel_OCL: 20.22uH ± 25%; Parallel_I(Sat): 2.34A (Peak); Parallel_I(RMS): 2.24A DC; Parallel_DCR: 0.078 Ohms (Typical @ 20°C); Series_OCL: 80.90uH ± 25%; Series_I(Sat): 1.17uH (Minimum); Series_I(RMS): 1.12A DC; Series_DCR: 0.313 Ohms (Typical @ 20°C); Published: 17-Jul-2002; DatasheetDocument: Dec-2001; PackageDocument: Dec-2001; PackageReference: OPA2; Publisher: Altium Limited; ComponentLink1Description: Manufacturer Link; ComponentLink1URL: http://www.cooperet.com/; ComponentLink2Description: Datasheet; ComponentLink2URL: http://www.cooperet.com/pdfs_html/EconoPacOctaPacOctaPacPlus_Specs.pdf
footprint OPA2 (SM Inductor/Transformer; 4 Leads; Body 8.89 x 8.89 x 5.97 mm (LxWxH))
pins: 1 Pri+, 2 Pri-, 3 Sec-, 4 Sec+

## CTX20-2P
designator T?
Surface Mount 1:1 Transformer, 0.75A DC Series Full Load Current, Econo-Pac; Parallel_OCL: 19.58uH ± 20%; Parallel_L(Full_Load): 13.37uH (Minimum); Parallel_I(Full_Load): 1.50A DC; Parallel_DCR: 0.097 Ohms (Maximum); Series_OCL: 78.34uH ± 20%; Series_L(Full_Load): 53.48uH (Minimum); Series_DCR: 0.387 Ohms (Maximum); Published: 17-Jul-2002; DatasheetDocument: Jan-2002; PackageDocument: Dec-2001; PackageReference: OPA2; Publisher: Altium Limited; Series_I(Full_Load): 0.75A DC; ComponentLink1Description: Manufacturer Link; ComponentLink1URL: http://www.cooperet.com/; ComponentLink2Description: Datasheet; ComponentLink2URL: http://www.cooperet.com/pdfs_html/EconoPacOctaPacOctaPacPlus_Specs.pdf
footprint OPA2 (SM Inductor/Transformer; 4 Leads; Body 8.89 x 8.89 x 5.97 mm (LxWxH))
pins: 1 Pri+, 2 Pri-, 3 Sec-, 4 Sec+

## CTX20-3
designator T?
Surface Mount 1:1 Transformer, 0.75A DC Series Full Load Current, Octa-Pac; Parallel_OCL: 20.18uH ± 20%; Parallel_L(Full_Load): 10.76uH (Minimum); Parallel_I(Full_Load): 1.50A DC; Parallel_DCR: 0.078 Ohms (Maximum); Series_OCL: 80.74uH ± 20%; Series_L(Full_Load): 43.04uH (Minimum); Series_DCR: 0.312 Ohms (Maximum); Published: 17-Jul-2002; DatasheetDocument: Jan-2002; PackageDocument: Dec-2001; PackageReference: OPA3; Publisher: Altium Limited; Series_I(Full_Load): 0.75A DC; ComponentLink1Description: Manufacturer Link; ComponentLink1URL: http://www.cooperet.com/; ComponentLink2Description: Datasheet; ComponentLink2URL: http://www.cooperet.com/pdfs_html/EconoPacOctaPacOctaPacPlus_Specs.pdf
footprint OPA3 (SM Inductor/Transformer; 4 Leads; Body 11.43 x 11.43 x 4.83 mm (LxWxH))
pins: 1 Pri+, 2 Pri-, 3 Sec-, 4 Sec+

## CTX20-3A
designator T?
Surface Mount 1:1 Transformer, 1.22A RMS Series Current, Octa-Pac Plus; Parallel_OCL: 20.81uH ± 25%; Parallel_I(Sat): 2.05A (Peak); Parallel_I(RMS): 2.43A DC; Parallel_DCR: 0.071 Ohms (Typical @ 20°C); Series_OCL: 83.25uH ± 25%; Series_I(Sat): 1.02uH (Minimum); Series_I(RMS): 1.22A DC; Series_DCR: 0.282 Ohms (Typical @ 20°C); Published: 17-Jul-2002; DatasheetDocument: Dec-2001; PackageDocument: Dec-2001; PackageReference: OPA3; Publisher: Altium Limited; ComponentLink1Description: Manufacturer Link; ComponentLink1URL: http://www.cooperet.com/; ComponentLink2Description: Datasheet; ComponentLink2URL: http://www.cooperet.com/pdfs_html/EconoPacOctaPacOctaPacPlus_Specs.pdf
footprint OPA3 (SM Inductor/Transformer; 4 Leads; Body 11.43 x 11.43 x 4.83 mm (LxWxH))
pins: 1 Pri+, 2 Pri-, 3 Sec-, 4 Sec+

## CTX20-3P
designator T?
Surface Mount 1:1 Transformer, 0.75A DC Series Full Load Current, Econo-Pac; Parallel_OCL: 20.15uH ± 20%; Parallel_L(Full_Load): 13.12uH (Minimum); Parallel_I(Full_Load): 1.50A DC; Parallel_DCR: 0.111 Ohms (Maximum); Series_OCL: 80.59uH ± 20%; Series_L(Full_Load): 52.48uH (Minimum); Series_DCR: 0.443 Ohms (Maximum); Published: 17-Jul-2002; DatasheetDocument: Jan-2002; PackageDocument: Dec-2001; PackageReference: OPA3; Publisher: Altium Limited; Series_I(Full_Load): 0.75A DC; ComponentLink1Description: Manufacturer Link; ComponentLink1URL: http://www.cooperet.com/; ComponentLink2Description: Datasheet; ComponentLink2URL: http://www.cooperet.com/pdfs_html/EconoPacOctaPacOctaPacPlus_Specs.pdf
footprint OPA3 (SM Inductor/Transformer; 4 Leads; Body 11.43 x 11.43 x 4.83 mm (LxWxH))
pins: 1 Pri+, 2 Pri-, 3 Sec-, 4 Sec+

## CTX20-4
designator T?
Surface Mount 1:1 Transformer, 1.05A DC Series Full Load Current, Octa-Pac; Parallel_OCL: 19.60uH ± 20%; Parallel_L(Full_Load): 10.68uH (Minimum); Parallel_I(Full_Load): 2.10A DC; Parallel_DCR: 0.055 Ohms (Maximum); Series_OCL: 78.40uH ± 20%; Series_L(Full_Load): 42.73uH (Minimum); Series_DCR: 0.22 Ohms (Maximum); Published: 17-Jul-2002; DatasheetDocument: Jan-2002; PackageDocument: Dec-2001; PackageReference: OPA4; Publisher: Altium Limited; Series_I(Full_Load): 1.05A DC; ComponentLink1Description: Manufacturer Link; ComponentLink1URL: http://www.cooperet.com/; ComponentLink2Description: Datasheet; ComponentLink2URL: http://www.cooperet.com/pdfs_html/EconoPacOctaPacOctaPacPlus_Specs.pdf
footprint OPA4 (SM Inductor/Transformer; 4 Leads; Body 11.43 x 11.43 x 6.35 mm (LxWxH))
pins: 1 Pri+, 2 Pri-, 3 Sec-, 4 Sec+

## CTX20-4A
designator T?
Surface Mount 1:1 Transformer, 1.81A RMS Series Current, Octa-Pac Plus; Parallel_OCL: 19.58uH ± 25%; Parallel_I(Sat): 3.00A (Peak); Parallel_I(RMS): 3.62A DC; Parallel_DCR: 0.034 Ohms (Typical @ 20°C); Series_OCL: 78.30uH ± 25%; Series_I(Sat): 1.50uH (Minimum); Series_I(RMS): 1.81A DC; Series_DCR: 0.135 Ohms (Typical @ 20°C); Published: 17-Jul-2002; DatasheetDocument: Dec-2001; PackageDocument: Dec-2001; PackageReference: OPA4; Publisher: Altium Limited; ComponentLink1Description: Manufacturer Link; ComponentLink1URL: http://www.cooperet.com/; ComponentLink2Description: Datasheet; ComponentLink2URL: http://www.cooperet.com/pdfs_html/EconoPacOctaPacOctaPacPlus_Specs.pdf
footprint OPA4 (SM Inductor/Transformer; 4 Leads; Body 11.43 x 11.43 x 6.35 mm (LxWxH))
pins: 1 Pri+, 2 Pri-, 3 Sec-, 4 Sec+

## CTX20-4P
designator T?
Surface Mount 1:1 Transformer, 0.95A DC Series Full Load Current, Econo-Pac; Parallel_OCL: 20.62uH ± 20%; Parallel_L(Full_Load): 13.44uH (Minimum); Parallel_I(Full_Load): 1.90A DC; Parallel_DCR: 0.084 Ohms (Maximum); Series_OCL: 82.47uH ± 20%; Series_L(Full_Load): 53.76uH (Minimum); Series_DCR: 0.337 Ohms (Maximum); Published: 17-Jul-2002; DatasheetDocument: Jan-2002; PackageDocument: Dec-2001; PackageReference: OPA4; Publisher: Altium Limited; Series_I(Full_Load): 0.95A DC; ComponentLink1Description: Manufacturer Link; ComponentLink1URL: http://www.cooperet.com/; ComponentLink2Description: Datasheet; ComponentLink2URL: http://www.cooperet.com/pdfs_html/EconoPacOctaPacOctaPacPlus_Specs.pdf
footprint OPA4 (SM Inductor/Transformer; 4 Leads; Body 11.43 x 11.43 x 6.35 mm (LxWxH))
pins: 1 Pri+, 2 Pri-, 3 Sec-, 4 Sec+

## CTX25-1
designator T?
Surface Mount 1:1 Transformer, 0.37A DC Series Full Load Current, Octa-Pac; Parallel_OCL: 25.60uH ± 20%; Parallel_L(Full_Load): 16.35uH (Minimum); Parallel_I(Full_Load): 0.74A DC; Parallel_DCR: 0.167 Ohms (Maximum); Series_OCL: 102.40uH ± 20%; Series_L(Full_Load): 65.42uH (Minimum); Series_DCR: 0.668 Ohms (Maximum); Published: 17-Jul-2002; DatasheetDocument: Jan-2002; PackageDocument: Dec-2001; PackageReference: OPA1; Publisher: Altium Limited; Series_I(Full_Load): 0.37A DC; ComponentLink1Description: Manufacturer Link; ComponentLink1URL: http://www.cooperet.com/; ComponentLink2Description: Datasheet; ComponentLink2URL: http://www.cooperet.com/pdfs_html/EconoPacOctaPacOctaPacPlus_Specs.pdf
footprint OPA1 (SM Inductor/Transformer; 4 Leads; Body 8.89 x 8.89 x 4.19 mm (LxWxH))
pins: 1 Pri+, 2 Pri-, 3 Sec-, 4 Sec+

## CTX25-1A
designator T?
Surface Mount 1:1 Transformer, 0.73A RMS Series Current, Octa-Pac Plus; Parallel_OCL: 24.86uH ± 25%; Parallel_I(Sat): 1.63A (Peak); Parallel_I(RMS): 1.46A DC; Parallel_DCR: 0.173 Ohms (Typical @ 20°C); Series_OCL: 99.45uH ± 25%; Series_I(Sat): 0.82uH (Minimum); Series_I(RMS): 0.73A DC; Series_DCR: 0.693 Ohms (Typical @ 20°C); Published: 17-Jul-2002; DatasheetDocument: Dec-2001; PackageDocument: Dec-2001; PackageReference: OPA1; Publisher: Altium Limited; ComponentLink1Description: Manufacturer Link; ComponentLink1URL: http://www.cooperet.com/; ComponentLink2Description: Datasheet; ComponentLink2URL: http://www.cooperet.com/pdfs_html/EconoPacOctaPacOctaPacPlus_Specs.pdf
footprint OPA1 (SM Inductor/Transformer; 4 Leads; Body 8.89 x 8.89 x 4.19 mm (LxWxH))
pins: 1 Pri+, 2 Pri-, 3 Sec-, 4 Sec+

## CTX25-1P
designator T?
Surface Mount 1:1 Transformer, 0.48A DC Series Full Load Current, Econo-Pac; Parallel_OCL: 25.4uH ± 20%; Parallel_L(Full_Load): 17.07uH (Minimum); Parallel_I(Full_Load): 0.96A DC; Parallel_DCR: 0.177 Ohms (Maximum); Series_OCL: 101.60uH ± 20%; Series_L(Full_Load): 68.29uH (Minimum); Series_DCR: 0.708 Ohms (Maximum); Published: 17-Jul-2002; DatasheetDocument: Jan-2002; PackageDocument: Dec-2001; PackageReference: OPA1; Publisher: Altium Limited; Series_I(Full_Load): 0.48A DC; ComponentLink1Description: Manufacturer Link; ComponentLink1URL: http://www.cooperet.com/; ComponentLink2Description: Datasheet; ComponentLink2URL: http://www.cooperet.com/pdfs_html/EconoPacOctaPacOctaPacPlus_Specs.pdf
footprint OPA1 (SM Inductor/Transformer; 4 Leads; Body 8.89 x 8.89 x 4.19 mm (LxWxH))
pins: 1 Pri+, 2 Pri-, 3 Sec-, 4 Sec+

## CTX25-2
designator T?
Surface Mount 1:1 Transformer, 0.50A DC Series Full Load Current, Octa-Pac; Parallel_OCL: 24.86uH ± 20%; Parallel_L(Full_Load): 16.09uH (Minimum); Parallel_I(Full_Load): 1.00A DC; Parallel_DCR: 0.117 Ohms (Maximum); Series_OCL: 99.45uH ± 20%; Series_L(Full_Load): 64.35uH (Minimum); Series_I(Full_Load): 0.5A DC; Series_DCR: 0.466 Ohms (Maximum); Published: 17-Jul-2002; DatasheetDocument: Jan-2002; PackageDocument: Dec-2001; PackageReference: OPA2; Publisher: Altium Limited; ComponentLink1Description: Manufacturer Link; ComponentLink1URL: http://www.cooperet.com/; ComponentLink2Description: Datasheet; ComponentLink2URL: http://www.cooperet.com/pdfs_html/EconoPacOctaPacOctaPacPlus_Specs.pdf
footprint OPA2 (SM Inductor/Transformer; 4 Leads; Body 8.89 x 8.89 x 5.97 mm (LxWxH))
pins: 1 Pri+, 2 Pri-, 3 Sec-, 4 Sec+

## CTX25-2A
designator T?
Surface Mount 1:1 Transformer, 0.94A RMS Series Current, Octa-Pac Plus; Parallel_OCL: 25.60uH ± 25%; Parallel_I(Sat): 2.08A (Peak); Parallel_I(RMS): 1.89A DC; Parallel_DCR: 0.111 Ohms (Typical @ 20°C); Series_OCL: 102.38uH ± 25%; Series_I(Sat): 1.04uH (Minimum); Series_I(RMS): 0.94A DC; Series_DCR: 0.443 Ohms (Typical @ 20°C); Published: 17-Jul-2002; DatasheetDocument: Dec-2001; PackageDocument: Dec-2001; PackageReference: OPA2; Publisher: Altium Limited; ComponentLink1Description: Manufacturer Link; ComponentLink1URL: http://www.cooperet.com/; ComponentLink2Description: Datasheet; ComponentLink2URL: http://www.cooperet.com/pdfs_html/EconoPacOctaPacOctaPacPlus_Specs.pdf
footprint OPA2 (SM Inductor/Transformer; 4 Leads; Body 8.89 x 8.89 x 5.97 mm (LxWxH))
pins: 1 Pri+, 2 Pri-, 3 Sec-, 4 Sec+

## CTX25-2P
designator T?
Surface Mount 1:1 Transformer, 0.70A DC Series Full Load Current, Econo-Pac; Parallel_OCL: 24.79uH ± 20%; Parallel_L(Full_Load): 16.60uH (Minimum); Parallel_I(Full_Load): 1.40A DC; Parallel_DCR: 0.109 Ohms (Maximum); Series_OCL: 99.14uH ± 20%; Series_L(Full_Load): 66.38uH (Minimum); Series_I(Full_Load): 0.7A DC; Series_DCR: 0.436 Ohms (Maximum); Published: 17-Jul-2002; DatasheetDocument: Jan-2002; PackageDocument: Dec-2001; PackageReference: OPA2; Publisher: Altium Limited; ComponentLink1Description: Manufacturer Link; ComponentLink1URL: http://www.cooperet.com/; ComponentLink2Description: Datasheet; ComponentLink2URL: http://www.cooperet.com/pdfs_html/EconoPacOctaPacOctaPacPlus_Specs.pdf
footprint OPA2 (SM Inductor/Transformer; 4 Leads; Body 8.89 x 8.89 x 5.97 mm (LxWxH))
pins: 1 Pri+, 2 Pri-, 3 Sec-, 4 Sec+

## CTX25-3
designator T?
Surface Mount 1:1 Transformer, 0.49A DC Series Full Load Current, Octa-Pac; Parallel_OCL: 24.58uH ± 20%; Parallel_L(Full_Load): 15.64uH (Minimum); Parallel_I(Full_Load): 0.98A DC; Parallel_DCR: 0.086 Ohms (Maximum); Series_OCL: 98.30uH ± 20%; Series_L(Full_Load): 62.56uH (Minimum); Series_DCR: 0.346 Ohms (Maximum); Published: 17-Jul-2002; DatasheetDocument: Jan-2002; PackageDocument: Dec-2001; PackageReference: OPA3; Publisher: Altium Limited; Series_I(Full_Load): 0.49A DC; ComponentLink1Description: Manufacturer Link; ComponentLink1URL: http://www.cooperet.com/; ComponentLink2Description: Datasheet; ComponentLink2URL: http://www.cooperet.com/pdfs_html/EconoPacOctaPacOctaPacPlus_Specs.pdf
footprint OPA3 (SM Inductor/Transformer; 4 Leads; Body 11.43 x 11.43 x 4.83 mm (LxWxH))
pins: 1 Pri+, 2 Pri-, 3 Sec-, 4 Sec+

## CTX25-3A
designator T?
Surface Mount 1:1 Transformer, 1.17A RMS Series Current, Octa-Pac Plus; Parallel_OCL: 24.77uH ± 25%; Parallel_I(Sat): 1.88A (Peak); Parallel_I(RMS): 2.34A DC; Parallel_DCR: 0.076 Ohms (Typical @ 20°C); Series_OCL: 99.07uH ± 25%; Series_I(Sat): 0.94uH (Minimum); Series_I(RMS): 1.17A DC; Series_DCR: 0.306 Ohms (Typical @ 20°C); Published: 17-Jul-2002; DatasheetDocument: Dec-2001; PackageDocument: Dec-2001; PackageReference: OPA3; Publisher: Altium Limited; ComponentLink1Description: Manufacturer Link; ComponentLink1URL: http://www.cooperet.com/; ComponentLink2Description: Datasheet; ComponentLink2URL: http://www.cooperet.com/pdfs_html/EconoPacOctaPacOctaPacPlus_Specs.pdf
footprint OPA3 (SM Inductor/Transformer; 4 Leads; Body 11.43 x 11.43 x 4.83 mm (LxWxH))
pins: 1 Pri+, 2 Pri-, 3 Sec-, 4 Sec+

## CTX25-3P
designator T?
Surface Mount 1:1 Transformer, 0.70A DC Series Full Load Current, Econo-Pac; Parallel_OCL: 25.33uH ± 20%; Parallel_L(Full_Load): 16.16uH (Minimum); Parallel_I(Full_Load): 1.40A DC; Parallel_DCR: 0.125 Ohms (Maximum); Series_OCL: 101.31uH ± 20%; Series_L(Full_Load): 64.66uH (Minimum); Series_I(Full_Load): 0.7A DC; Series_DCR: 0.499 Ohms (Maximum); Published: 17-Jul-2002; DatasheetDocument: Jan-2002; PackageDocument: Dec-2001; PackageReference: OPA3; Publisher: Altium Limited; ComponentLink1Description: Manufacturer Link; ComponentLink1URL: http://www.cooperet.com/; ComponentLink2Description: Datasheet; ComponentLink2URL: http://www.cooperet.com/pdfs_html/EconoPacOctaPacOctaPacPlus_Specs.pdf
footprint OPA3 (SM Inductor/Transformer; 4 Leads; Body 11.43 x 11.43 x 4.83 mm (LxWxH))
pins: 1 Pri+, 2 Pri-, 3 Sec-, 4 Sec+

## CTX25-4
designator T?
Surface Mount 1:1 Transformer, 1.00A DC Series Full Load Current, Octa-Pac; Parallel_OCL: 25.92uH ± 20%; Parallel_L(Full_Load): 13.32uH (Minimum); Parallel_I(Full_Load): 2.00A DC; Parallel_DCR: 0.063 Ohms (Maximum); Series_OCL: 103.68uH ± 20%; Series_L(Full_Load): 53.27uH (Minimum); Series_I(Full_Load): 1A DC; Series_DCR: 0.253 Ohms (Maximum); Published: 17-Jul-2002; DatasheetDocument: Jan-2002; PackageDocument: Dec-2001; PackageReference: OPA4; Publisher: Altium Limited; ComponentLink1Description: Manufacturer Link; ComponentLink1URL: http://www.cooperet.com/; ComponentLink2Description: Datasheet; ComponentLink2URL: http://www.cooperet.com/pdfs_html/EconoPacOctaPacOctaPacPlus_Specs.pdf
footprint OPA4 (SM Inductor/Transformer; 4 Leads; Body 11.43 x 11.43 x 6.35 mm (LxWxH))
pins: 1 Pri+, 2 Pri-, 3 Sec-, 4 Sec+